# EAGLE library part PTR5528 (library BaseApp)
PTR5528 - Fingertip-size nRF51822 Module- Ultra Low Power Bluetooth 4.0 Low Energy RF Module Link - http://www.aliexpress.com/store/product/Free-shipping-NRF51822-Ultra-Low-Power-Bluetooth-4-0-Low-Energy-RF-Module-Fingertip-size/130096_1358212667.html
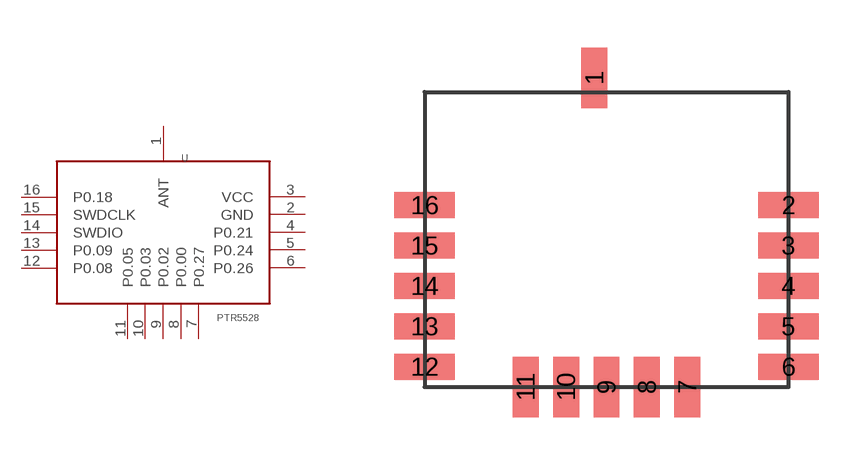
[diagram p107: symbol with the pads of PTR5528; footprint PTR5528]

Designator prefix -

## PTR5528  [PTR5528]
1  ANT
2  GND
3  VCC
4  P0.21
5  P0.24
6  P0.26
7  P0.27
8  P0.00
9  P0.02
10  P0.03
11  P0.05
12  P0.08
13  P0.09
14  SWDIO
15  SWDCLK
16  P0.18

## Footprint PTR5528 (pad centres in mm)
smd 0.813 x 1.905: 1 -0.381,5.08; 7 2.54,-4.636; 8 1.27,-4.636; 9 0,-4.636; 10 -1.27,-4.636; 11 -2.54,-4.636
smd 1.905 x 0.813: 2 5.715,1.079; 3 5.715,-0.191; 4 5.715,-1.46; 5 5.715,-2.731; 6 5.715,-4; 12 -5.715,-4; 13 -5.715,-2.731; 14 -5.715,-1.46; 15 -5.715,-0.191; 16 -5.715,1.079